# EAGLE library part DS90C387AVJD_NOPB (library marius)
LVDS Flat Panel Display 0.45V TQFP100 Texas Instruments DS90C387AVJD/NOPB, LVDS Transmitter 8-TX CMOS/ TTL Receiver, 3 3.6 V, 100-Pin, TQFP <https://componentsearchengine.com/Images/3/DS90C387AVJD_NOPB.jpg> Source: Datasheet <http://www.farnell.com/datasheets/1777670.pdf>
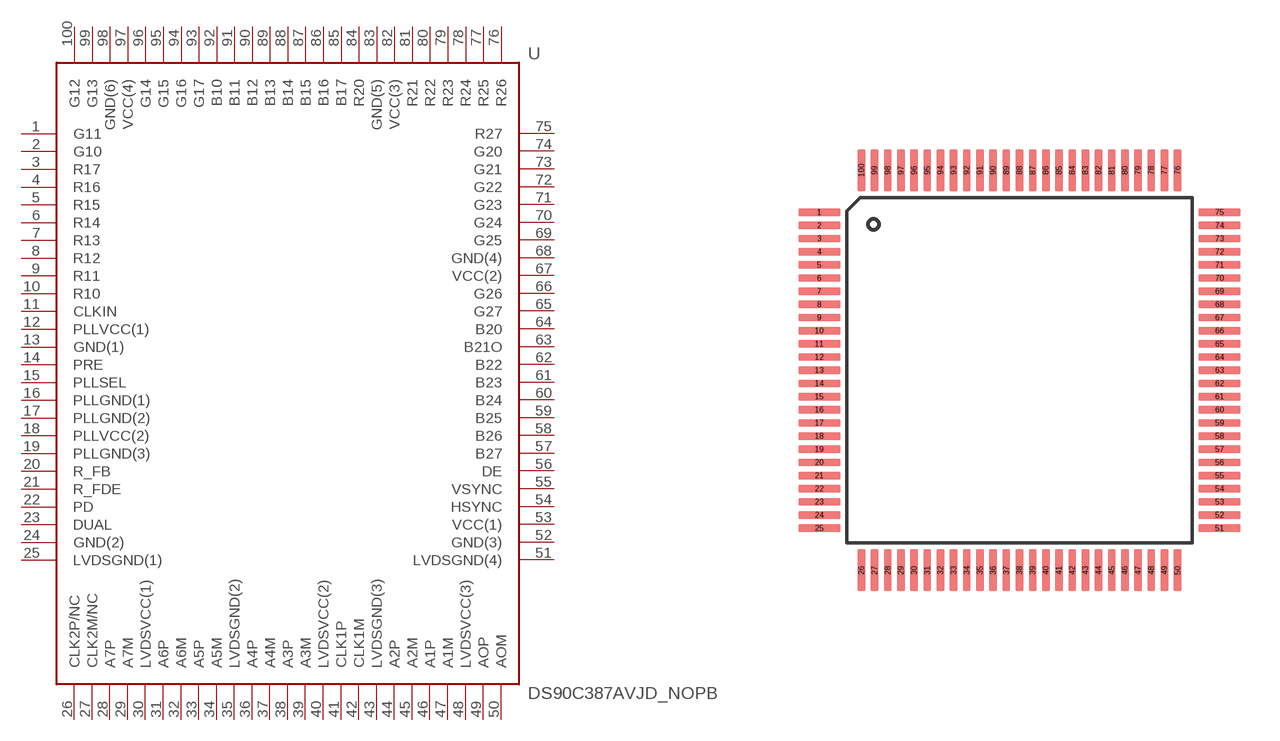
[diagram p0: symbol with the pads of TQFP100; footprint TQFP100]

Designator prefix U

## DS90C387AVJD_NOPB (FARNELL: 1685587; MPN: DS90C387AVJD/NOPB)  [TQFP100]
1  G11  in
2  G10  in
3  R17  in
4  R16  in
5  R15  in
6  R14  in
7  R13  in
8  R12  in
9  R11  in
10  R10  in
11  CLKIN  in
12  PLLVCC(1)  in
13  GND(1)  in
14  PRE  in
15  PLLSEL  in
16  PLLGND(1)  in
17  PLLGND(2)  in
18  PLLVCC(2)  in
19  PLLGND(3)  in
20  R_FB  in
21  R_FDE  in
22  PD  in
23  DUAL  in
24  GND(2)  in
25  LVDSGND(1)  in
26  CLK2P/NC  in
27  CLK2M/NC  in
28  A7P  in
29  A7M  in
30  LVDSVCC(1)  in
31  A6P  in
32  A6M  in
33  A5P  in
34  A5M  in
35  LVDSGND(2)  in
36  A4P  in
37  A4M  in
38  A3P  in
39  A3M  in
40  LVDSVCC(2)  in
41  CLK1P  in
42  CLK1M  in
43  LVDSGND(3)  in
44  A2P  in
45  A2M  in
46  A1P  in
47  A1M  in
48  LVDSVCC(3)  in
49  AOP  in
50  AOM  in
51  LVDSGND(4)  in
52  GND(3)  in
53  VCC(1)  in
54  HSYNC  in
55  VSYNC  in
56  DE  in
57  B27  in
58  B26  in
59  B25  in
60  B24  in
61  B23  in
62  B22  in
63  B21O  in
64  B20  in
65  G27  in
66  G26  in
67  VCC(2)  in
68  GND(4)  in
69  G25  in
70  G24  in
71  G23  in
72  G22  in
73  G21  in
74  G20  in
75  R27  in
76  R26  in
77  R25  in
78  R24  in
79  R23  in
80  R22  in
81  R21  in
82  VCC(3)  in
83  GND(5)  in
84  R20  in
85  B17  in
86  B16  in
87  B15  in
88  B14  in
89  B13  in
90  B12  in
91  B11  in
92  B10  in
93  G17  in
94  G16  in
95  G15  in
96  G14  in
97  VCC(4)  in
98  GND(6)  in
99  G13  in
100  G12  in

## Footprint TQFP100 (pad centres in mm)
smd 1.6 x 0.3: 1 -7.6,6; 2 -7.6,5.5; 3 -7.6,5; 4 -7.6,4.5; 5 -7.6,4; 6 -7.6,3.5; 7 -7.6,3; 8 -7.6,2.5; 9 -7.6,2; 10 -7.6,1.5; 11 -7.6,1; 12 -7.6,0.5; 13 -7.6,0; 14 -7.6,-0.5; 15 -7.6,-1; 16 -7.6,-1.5; 17 -7.6,-2; 18 -7.6,-2.5; 19 -7.6,-3; 20 -7.6,-3.5; 21 -7.6,-4; 22 -7.6,-4.5; 23 -7.6,-5; 24 -7.6,-5.5; 25 -7.6,-6; 51 7.6,-6; 52 7.6,-5.5; 53 7.6,-5; 54 7.6,-4.5; 55 7.6,-4; 56 7.6,-3.5; 57 7.6,-3; 58 7.6,-2.5; 59 7.6,-2; 60 7.6,-1.5; 61 7.6,-1; 62 7.6,-0.5; 63 7.6,0; 64 7.6,0.5; 65 7.6,1; 66 7.6,1.5; 67 7.6,2; 68 7.6,2.5; 69 7.6,3; 70 7.6,3.5; 71 7.6,4; 72 7.6,4.5; 73 7.6,5; 74 7.6,5.5; 75 7.6,6
smd 0.3 x 1.6: 26 -6,-7.6; 27 -5.5,-7.6; 28 -5,-7.6; 29 -4.5,-7.6; 30 -4,-7.6; 31 -3.5,-7.6; 32 -3,-7.6; 33 -2.5,-7.6; 34 -2,-7.6; 35 -1.5,-7.6; 36 -1,-7.6; 37 -0.5,-7.6; 38 0,-7.6; 39 0.5,-7.6; 40 1,-7.6; 41 1.5,-7.6; 42 2,-7.6; 43 2.5,-7.6; 44 3,-7.6; 45 3.5,-7.6; 46 4,-7.6; 47 4.5,-7.6; 48 5,-7.6; 49 5.5,-7.6; 50 6,-7.6; 76 6,7.6; 77 5.5,7.6; 78 5,7.6; 79 4.5,7.6; 80 4,7.6; 81 3.5,7.6; 82 3,7.6; 83 2.5,7.6; 84 2,7.6; 85 1.5,7.6; 86 1,7.6; 87 0.5,7.6; 88 0,7.6; 89 -0.5,7.6; 90 -1,7.6; 91 -1.5,7.6; 92 -2,7.6; 93 -2.5,7.6; 94 -3,7.6; 95 -3.5,7.6; 96 -4,7.6; 97 -4.5,7.6; 98 -5,7.6; 99 -5.5,7.6; 100 -6,7.6